# EAGLE library part TI-TLV62085 (library EagleLibrary)
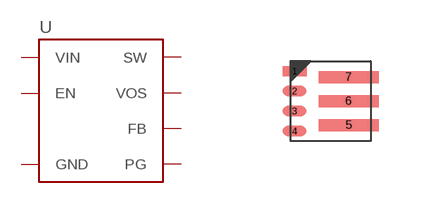
[diagram p27: symbol with the pads of TI-TLV62085RLT; footprint TI-TLV62085RLT]

Designator prefix -

## TI-TLV62085 (MFG: Texas Instruments)  [TI-TLV62085RLT]
1  EN
2  PG
3  FB
4  VOS
5  GND
6  SW
7  VIN

## Footprint TI-TLV62085RLT (pad centres in mm)
smd 0.6 x 0.25: 1 -0.9,0.75; 2 -0.9,0.25; 3 -0.9,-0.25; 4 -0.9,-0.75
smd 1.5 x 0.3: 5 0.45,-0.6; 6 0.45,0; 7 0.45,0.6